# Altium footprint library GCT, USB4056.PcbLib: 1 footprints
Each footprint in its own frame and in the unit in brackets; x right, y up, seen from the top. Pads: shape width x height; smd on the part's side, far side on the other; paste and mask are expansions set on the pad; w line width, h text height; cw(c..) or ccw(c..) is an arc to the next point about the centre after c.
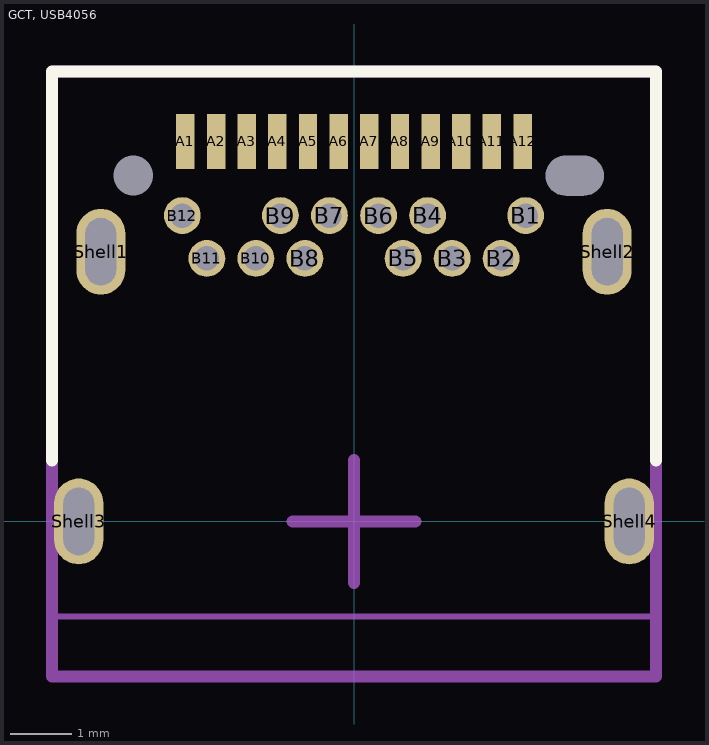
[diagram p0: the footprint, top view; thin cyan lines are the x and y axes]

## GCT, USB4056 [mm] "GCT, USB4056"
height 3.26
pads (30):
  rect 0.3x0.9 smd mask+0.05: A1(-2.75,6.2) A2(-2.25,6.2) A3(-1.75,6.2) A4(-1.25,6.2) A5(-0.75,6.2) A6(-0.25,6.2) A7(0.25,6.2) A8(0.75,6.2) A9(1.25,6.2) A10(1.75,6.2) A11(2.25,6.2) A12(2.75,6.2)
  round 0.6 hole 0.4 mask+0.05: B1(2.8,4.99) B2(2.4,4.29) B3(1.6,4.29) B4(1.2,4.99) B5(0.8,4.29) B6(0.4,4.99) B7(-0.4,4.99) B8(-0.8,4.29) B9(-1.2,4.99) B10(-1.6,4.29) B11(-2.4,4.29) B12(-2.8,4.99)
  round 0 hole 0.65 unplated mask+0.05: Hole1(-3.6,5.64)
  round 0 hole 0.65 slot 0.95 at 0 deg unplated mask+0.05: Hole2(3.6,5.64)
  oval 0.8x1.4 hole 0.5 slot 1.1 at 90 deg mask+0.05: Shell1(-4.13,4.4) Shell2(4.13,4.4) Shell3(-4.49,0) Shell4(4.49,0)
Top Overlay:
  lines w0.2: -4.925,1 -4.925,7.34 4.925,7.34 4.925,1
Top Assembly:
  lines w0.1: -4.925,-1.55 4.925,-1.55
  lines w0.2: -4.925,-2.53 -4.925,7.34 4.925,7.34 4.925,-2.53 -4.925,-2.53
  text "PCB Edge" at -1.018,-1.406 h0.5
Top Designator:
  text ".Designator" at -4,-4.125 h2
Top Component Center:
  lines w0.2: -1,0 1,0 ; 0,-1 0,1
3D body "GCT, USB4056.step": height 3.33, standoff -1.13, extent -4.934,-2.524 4.916,7.346